# Altium integrated library HSMM-C170.IntLib: 1 symbol
Pins are listed as number, name and electrical type; pins without a type are passive.

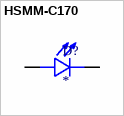
[diagram p0: symbol HSMM-C170]

## HSMM-C170
designator D?
MP: HSMM-C170; Package: None; Price: None; Value: *; Availability: Unavailable
footprint LED_HSMM-C170
pins: A, C